# EAGLE library part BUCHSENLEISTE-6-ANGLED (library iceberg20)
BL 1X20W 2,54 20-pin socket terminal strip, angled, RM 2.54 Datenblatt: Link <https://cdn-reichelt.de/documents/datenblatt/C140/DATENBLATT_NBLA.pdf>
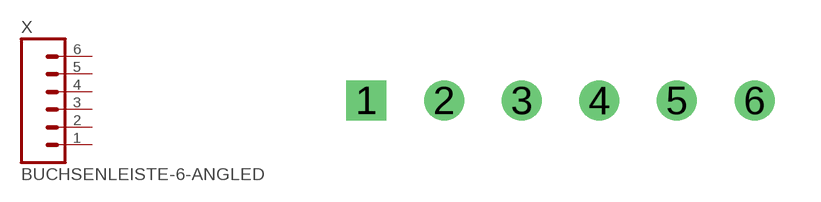
[diagram p13: symbol with the pads of PIN-HEADER-ANGLED-6; footprint PIN-HEADER-ANGLED-6]

Designator prefix X

## BUCHSENLEISTE-6-ANGLED (BESTAND: ?; SUPPLIER: Reichelt; SUPPLIER-NR: BL 1X20W 2,54)  [PIN-HEADER-ANGLED-6]
1  1  pas
2  2  pas
3  3  pas
4  4  pas
5  5  pas
6  6  pas

## Footprint PIN-HEADER-ANGLED-6 (pad centres in mm)
drill 0.8 square: 1 1.75,0.25
drill 0.8: 2 4.29,0.25; 3 6.83,0.25; 4 9.37,0.25; 5 11.91,0.25; 6 14.45,0.25